# Altium schematic symbol library SCH - POWER - LINEAR VREG - TI TLV716120275PDPQ.SchLib: 1 symbol
Pins are listed as number, name and electrical type; pins without a type are passive.

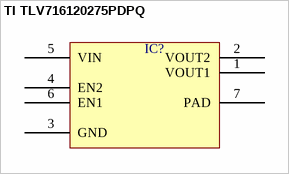
[diagram p0: symbol TI TLV716120275PDPQ]

## TI TLV716120275PDPQ
designator IC?  (value not drawn)
pins: 1 VOUT1, 2 VOUT2, 3 GND, 4 EN2, 5 VIN, 6 EN1, 7 PAD